# Altium footprint library WRA_ZP-3WR2.PcbLib: 1 footprints
Each footprint in its own frame and in the unit in brackets; x right, y up, seen from the top. Pads: shape width x height; smd on the part's side, far side on the other; paste and mask are expansions set on the pad; w line width, h text height; cw(c..) or ccw(c..) is an arc to the next point about the centre after c.
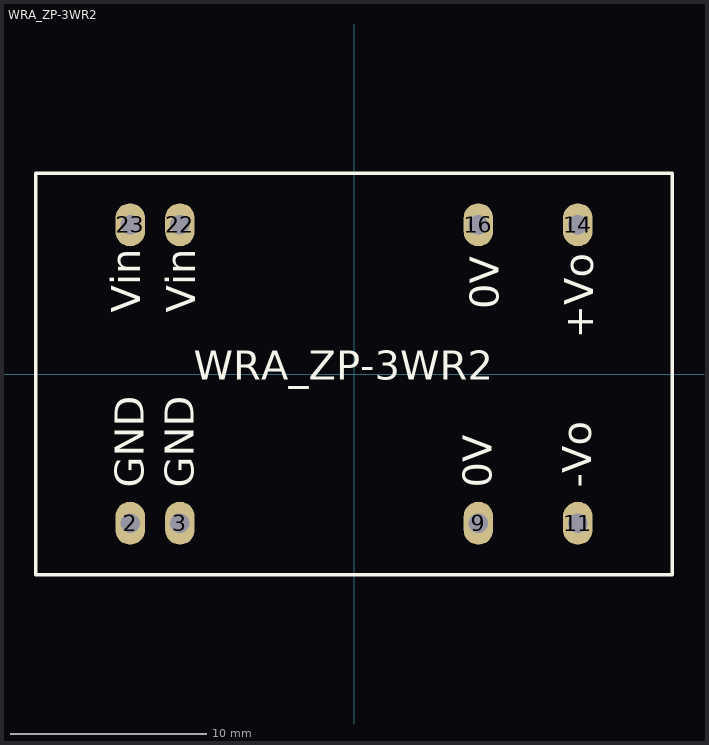
[diagram p0: the footprint, top view; thin cyan lines are the x and y axes]

## WRA_ZP-3WR2 [mm]
pads (8):
  oval 1.5x2.2 hole 1: 2(-11.43,-7.62) 3(-8.89,-7.62) 9(6.35,-7.62) 11(11.43,-7.62) 14(11.43,7.62) 16(6.35,7.62) 22(-8.89,7.62) 23(-11.43,7.62)
Top Overlay:
  lines w0.17: -16.25,-10.25 16.25,-10.25 16.25,10.25 -16.25,10.25 -16.25,-10.25
  text "WRA_ZP-3WR2" at -8.179,-0.301 h1.5
  text "GND" at -10.734,-5.82 h1.5
  text "GND" at -8.194,-5.82 h1.5
  text "Vin" at -10.906,3.12 h1.5
  text "Vin" at -8.112,3.12 h1.5
  text "0V" at 7.382,3.313 h1.5
  text "+Vo" at 12.208,1.799 h1.5
  text "0V" at 7.046,-5.82 h1.5
  text "-Vo" at 12.126,-5.82 h1.5